# Altium footprint library SODIMM_204.PcbLib: 1 footprints
Each footprint in its own frame and in the unit in brackets; x right, y up, seen from the top. Pads: shape width x height; smd on the part's side, far side on the other; paste and mask are expansions set on the pad; w line width, h text height; cw(c..) or ccw(c..) is an arc to the next point about the centre after c.
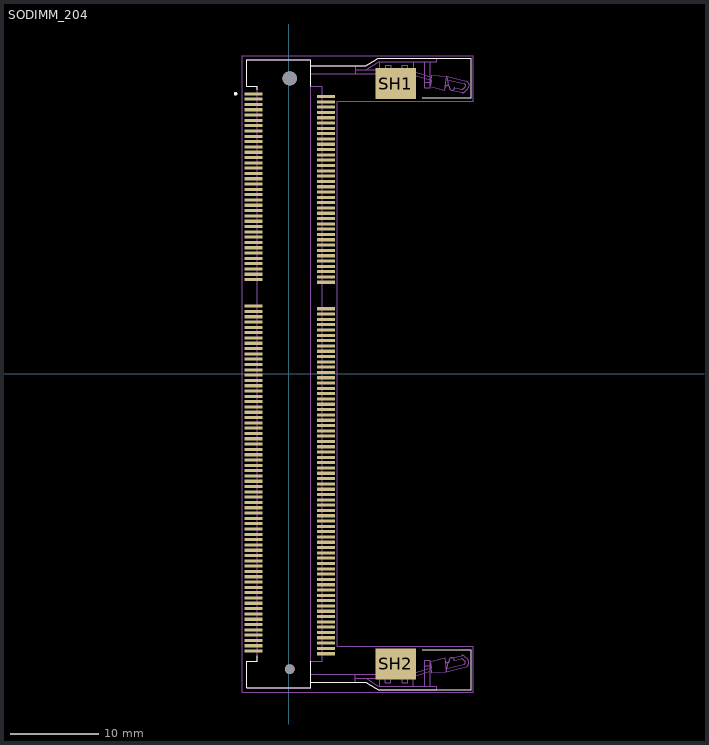
[diagram p0: the footprint, top view; thin cyan lines are the x and y axes]

## SODIMM_204 [mm]
pads (208):
  rect 2x0.35 smd: 1(-3.973,31.65) 2(4.227,31.35) 3(-3.973,31.05) 4(4.227,30.75) 5(-3.973,30.45) 6(4.227,30.15) 7(-3.973,29.85) 8(4.227,29.55) 9(-3.973,29.25) 10(4.227,28.95) 11(-3.973,28.65) 12(4.227,28.35) 13(-3.973,28.05) 14(4.227,27.75) 15(-3.973,27.45) 16(4.227,27.15) 17(-3.973,26.85) 18(4.227,26.55) 19(-3.973,26.25) 20(4.227,25.95) 21(-3.973,25.65) 22(4.227,25.35) 23(-3.973,25.05) 24(4.227,24.75) 25(-3.973,24.45) 26(4.227,24.15) 27(-3.973,23.85) 28(4.227,23.55) 29(-3.973,23.25) 30(4.227,22.95) 31(-3.973,22.65) 32(4.227,22.35) 33(-3.973,22.05) 34(4.227,21.75) 35(-3.973,21.45) 36(4.227,21.15) 37(-3.973,20.85) 38(4.227,20.55) 39(-3.973,20.25) 40(4.227,19.95) 41(-3.973,19.65) 42(4.227,19.35) 43(-3.973,19.05) 44(4.227,18.75) 45(-3.973,18.45) 46(4.227,18.15) 47(-3.973,17.85) 48(4.227,17.55) 49(-3.973,17.25) 50(4.227,16.95) 51(-3.973,16.65) 52(4.227,16.35) 53(-3.973,16.05) 54(4.227,15.75) 55(-3.973,15.45) 56(4.227,15.15) 57(-3.973,14.85) 58(4.227,14.55) 59(-3.973,14.25) 60(4.227,13.95) 61(-3.973,13.65) 62(4.227,13.35) 63(-3.973,13.05) 64(4.227,12.75) 65(-3.973,12.45) 66(4.227,12.15) 67(-3.973,11.85) 68(4.227,11.55) 69(-3.973,11.25) 70(4.227,10.95) 71(-3.973,10.65) 72(4.227,10.35) 73(-3.973,7.65) 74(4.227,7.35) 75(-3.973,7.05) 76(4.227,6.75) 77(-3.973,6.45) 78(4.227,6.15) 79(-3.973,5.85) 80(4.227,5.55) 81(-3.973,5.25) 82(4.227,4.95) 83(-3.973,4.65) 84(4.227,4.35) 85(-3.973,4.05) 86(4.227,3.75) 87(-3.973,3.45) 88(4.227,3.15) 89(-3.973,2.85) 90(4.227,2.55) 91(-3.973,2.25) 92(4.227,1.95) 93(-3.973,1.65) 94(4.227,1.35) 95(-3.973,1.05) 96(4.227,0.75) 97(-3.973,0.45) 98(4.227,0.15) 99(-3.973,-0.15) 100(4.227,-0.45) 101(-3.973,-0.75) 102(4.227,-1.05) 103(-3.973,-1.35) 104(4.227,-1.65) 105(-3.973,-1.95) 106(4.227,-2.25) 107(-3.973,-2.55) 108(4.227,-2.85) 109(-3.973,-3.15) 110(4.227,-3.45) 111(-3.973,-3.75) 112(4.227,-4.05) 113(-3.973,-4.35) 114(4.227,-4.65) 115(-3.973,-4.95) 116(4.227,-5.25) 117(-3.973,-5.55) 118(4.227,-5.85) 119(-3.973,-6.15) 120(4.227,-6.45) 121(-3.973,-6.75) 122(4.227,-7.05) 123(-3.973,-7.35) 124(4.227,-7.65) 125(-3.973,-7.95) 126(4.227,-8.25) 127(-3.973,-8.55) 128(4.227,-8.85) 129(-3.973,-9.15) 130(4.227,-9.45) 131(-3.973,-9.75) 132(4.227,-10.05) 133(-3.973,-10.35) 134(4.227,-10.65) 135(-3.973,-10.95) 136(4.227,-11.25) 137(-3.973,-11.55) 138(4.227,-11.85) 139(-3.973,-12.15) 140(4.227,-12.45) 141(-3.973,-12.75) 142(4.227,-13.05) 143(-3.973,-13.35) 144(4.227,-13.65) 145(-3.973,-13.95) 146(4.227,-14.25) 147(-3.973,-14.55) 148(4.227,-14.85) 149(-3.973,-15.15) 150(4.227,-15.45) 151(-3.973,-15.75) 152(4.227,-16.05) 153(-3.973,-16.35) 154(4.227,-16.65) 155(-3.973,-16.95) 156(4.227,-17.25) 157(-3.973,-17.55) 158(4.227,-17.85) 159(-3.973,-18.15) 160(4.227,-18.45) 161(-3.973,-18.75) 162(4.227,-19.05) 163(-3.973,-19.35) 164(4.227,-19.65) 165(-3.973,-19.95) 166(4.227,-20.25) 167(-3.973,-20.55) 168(4.227,-20.85) 169(-3.973,-21.15) 170(4.227,-21.45) 171(-3.973,-21.75) 172(4.227,-22.05) 173(-3.973,-22.35) 174(4.227,-22.65) 175(-3.973,-22.95) 176(4.227,-23.25) 177(-3.973,-23.55) 178(4.227,-23.85) 179(-3.973,-24.15) 180(4.227,-24.45) 181(-3.973,-24.75) 182(4.227,-25.05) 183(-3.973,-25.35) 184(4.227,-25.65) 185(-3.973,-25.95) 186(4.227,-26.25) 187(-3.973,-26.55) 188(4.227,-26.85) 189(-3.973,-27.15) 190(4.227,-27.45) 191(-3.973,-27.75) 192(4.227,-28.05) 193(-3.973,-28.35) 194(4.227,-28.65) 195(-3.973,-28.95) 196(4.227,-29.25) 197(-3.973,-29.55) 198(4.227,-29.85) 199(-3.973,-30.15) 200(4.227,-30.45) 201(-3.973,-30.75) 202(4.227,-31.05) 203(-3.973,-31.35) 204(4.227,-31.65)
  rect 4.6x3.5 smd: SH1(12.127,32.8) SH2(12.127,-32.8)
  round 1.1 hole 1.1 unplated: ""(0.127,-33.4)
  round 1.6 hole 1.6 unplated: ""(0.127,33.4)
Top Overlay:
  circle w0.2: c-5.992,31.66 r0.1
  lines w0.127: -3.573,-31.9 -3.573,-32.5 -4.723,-32.5 -4.723,-35.5 2.477,-35.5 2.477,-32.5 ; -3.573,32.1 -3.573,32.5 -4.723,32.5 -4.723,35.5 2.477,35.5 2.477,32.5 ; 2.527,-34.85 8.727,-34.85 10.127,-35.75 20.627,-35.75 20.627,-31.2 15.127,-31.2 ; 2.527,34.8 8.727,34.8 10.127,35.7 20.627,35.7 20.627,31.2 15.127,31.2
Mechanical 13:
  circle w0.2: c-5.992,31.66 r0.1
  lines w0.127: 2.512,33.901 7.592,33.901 7.592,34.353 ; 2.512,34.801 7.592,34.801 ; 7.547,-33.971 13.627,-33.971 16.127,-33.25 16.027,-32.6 16.127,-33.8 17.827,-33.7 ; 7.582,33.922 13.662,33.922 16.162,33.201 16.062,32.551 16.162,33.751 17.862,33.651 ; 8.727,-34.402 7.557,-34.402 ; 8.727,-34.4 13.527,-34.4 16.127,-33.6 ; 8.752,-34.418 10.152,-35.318 16.727,-35.318 16.727,-35.75 10.127,-35.75 8.727,-34.85 7.557,-34.85 ; 8.762,34.351 13.562,34.351 16.162,33.551 ; 8.762,34.353 7.592,34.353 ; 8.787,34.369 10.187,35.269 16.762,35.269 16.762,35.701 10.162,35.701 8.762,34.801 7.592,34.801 ; 10.287,-35.267 10.287,-31.65 14.097,-31.65 14.097,-35.255 ; 10.322,35.218 10.322,31.601 14.132,31.601 14.132,35.206 ; 15.367,-35.306 15.367,-33.02 ; 15.402,35.257 15.402,32.971 ; 16.002,-35.293 16.002,-33.02 ; 16.037,35.244 16.037,32.971 ; 16.127,-32.5 17.627,-32.1 17.827,-33.7 ; 16.162,32.451 17.662,32.051 17.862,33.651 ; 17.688,-32.445 ccw(c17.939,-32.396) 18.189,-32.348 ; 17.723,32.396 cw(c17.974,32.347) 18.224,32.299 ; 17.927,-33.3 19.879,-32.824 ; 17.962,33.251 19.914,32.775 ; 18.027,-32.7 17.827,-33.7 ; 18.062,32.651 17.862,33.651 ; 18.176,-32.328 cw(c18.453,-32.387) 18.731,-32.445 ; 18.211,32.279 ccw(c18.488,32.337) 18.766,32.396 ; 18.427,-32.1 19.554,-31.854 ; 18.462,32.051 19.589,31.805 ; 18.727,-32.4 19.327,-32.3 19.51,-32.239 ; 18.762,32.351 19.362,32.251 19.545,32.19 ; 19.511,-32.239 cw(c19.573,-32.429) 19.714,-32.287 19.931,-32.504 cw(c19.789,-32.645) 19.88,-32.823 ; 19.546,32.19 ccw(c19.608,32.38) 19.749,32.238 19.966,32.455 ccw(c19.824,32.596) 19.915,32.774 ; 19.555,-31.854 cw(c19.643,-32.141) 19.855,-31.928 20.23,-32.303 cw(c19.876,-32.656) 20.095,-33.106 ; 19.59,31.805 ccw(c19.678,32.092) 19.89,31.879 20.265,32.254 ccw(c19.911,32.607) 20.13,33.057 ; 20.094,-33.106 17.827,-33.7 ; 20.129,33.057 17.862,33.651 ; 2.477,-34.85 7.557,-34.85 ; 2.477,-34.85 2.477,-33.95 ; 2.477,-34.85 2.477,-35.5 -4.723,-35.5 -4.723,-32.5 -3.573,-32.5 -3.573,32.5 -4.723,32.5 -4.723,35.5 2.477,35.5 2.477,32.5 ; 2.477,-33.95 7.557,-33.95 7.557,-34.402 ; 2.477,-33.95 2.477,-32.5 ; 2.477,-32.5 3.827,-32.5 3.827,32.5 2.477,32.5 ; 2.477,-32.5 2.477,32.5 ; 7.557,-34.85 7.557,-34.402 ; 7.592,34.353 7.592,34.801 ; 15.367,-33.02 16.002,-33.02 ; 15.367,-33.02 15.367,-32.385 16.002,-32.385 16.002,-33.02 ; 15.402,32.971 16.037,32.971 ; 15.402,32.971 15.402,32.336 16.037,32.336 16.037,32.971 ; 10.922,-34.925 11.557,-34.925 11.557,-33.02 12.827,-33.02 12.827,-34.925 13.462,-34.925 13.462,-33.02 12.827,-32.385 11.557,-32.385 10.922,-33.02 10.922,-34.925 ; 10.957,32.971 11.592,32.336 12.862,32.336 13.497,32.971 13.497,34.876 12.862,34.876 12.862,32.971 11.592,32.971 11.592,34.876 10.957,34.876 10.957,32.971
Mechanical 15:
  lines w0.05: -5.223,35.951 -5.223,35.95 ; -5.223,35.95 20.877,35.95 20.877,30.8 5.477,30.8 5.477,-30.8 20.877,-30.8 20.877,-36 -5.223,-36 -5.223,35.95
3D body "c-2-2013289-1-b-3d.stp": height 5.35, standoff -0.8, extent -4.89,-35.8 21.65,35.8